# Altium integrated library Mechanical.IntLib: 5 symbols
Pins are listed as number, name and electrical type; pins without a type are passive.

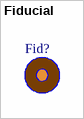
[diagram p0: symbol Fiducial]

## Fiducial
designator Fid?  (value not drawn)  (mechanical)
Mechanical, Fiducial; Component Type: Fiducial; Component Category: Mechanical
footprint Fiducial - 2mm, 5mm
footprint Fiducial, Panel - 2mm, 5mm


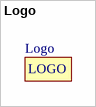
[diagram p1: symbol Logo]

## Logo
designator Logo  (value not drawn)  (graphical)
Mechanical, Logo; Component Type: Logo; Component Category: Mechanical
footprint Logo 1
text: LOGO


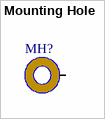
[diagram p2: symbol Mounting Hole]

## Mounting Hole
designator MH?  (value not drawn)  (mechanical)
Mechanical, Mounting Hole; Component Type: Mounting Hole; Component Category: Mechanical
footprint Mounting Hole - Hole-3.2mm, Pad-5mm
pins: Hole


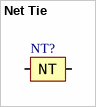
[diagram p3: symbol Net Tie]

## Net Tie
designator NT?  (value not drawn)  (mechanical)
Mechanical, Net Tie, 1mm; Component Type: Test Point; Component Category: Mechanical; ComponentLink1Description: Datasheet; ComponentLink1URL: E:\Altium\Datasheets\Mechanical\Net Ties and How to Use Them.pdf
footprint Net Tie - 1mm
pins: 1, 2
text: NT


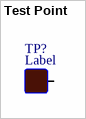
[diagram p4: symbol Test Point]

## Test Point
designator TP?  (value not drawn)  (mechanical)
Test Point; Component Category: Mechanical; Component Type: Test Point; Label: Label
footprint Test Point - SMD, Circular, Diameter-1mm
pins: TP